# Altium schematic symbol library QSTL_Nano_D_Con_Micro_DSUB.SchLib: 3 symbols
Pins are listed as number, name and electrical type; pins without a type are passive.

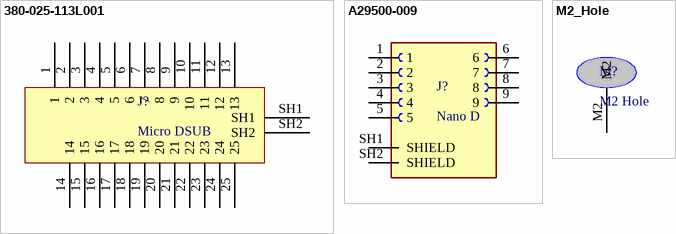
[diagram p0: symbols 380-025-113L001 to M2_Hole]

## 380-025-113L001
designator J?, comment Micro DSUB
NorComp Plug Micro DSUB
footprint 380-025-113L001
pins: 1, 2, 3, 4, 5, 6, 7, 8, 9, 10, 11, 12, 13, 14, 15, 16, 17, 18, 19, 20, 21, 22, 23, 24, 25, SH1, SH2

## A29500-009
designator J?, comment Nano D
https://www.digikey.ca/en/products/detail/omnetics/A29500-009/16614880
footprint A29500-009
pins: 1, 2, 3, 4, 5, 6, 7, 8, 9, SH1 SHIELD, SH2 SHIELD

## M2_Hole
designator M?, comment M2 Hole
footprint M2_Hole
pins: M2